# Altium schematic symbol library MyADLib.SchLib: 53 symbols
Pins are listed as number, name and electrical type; pins without a type are passive.

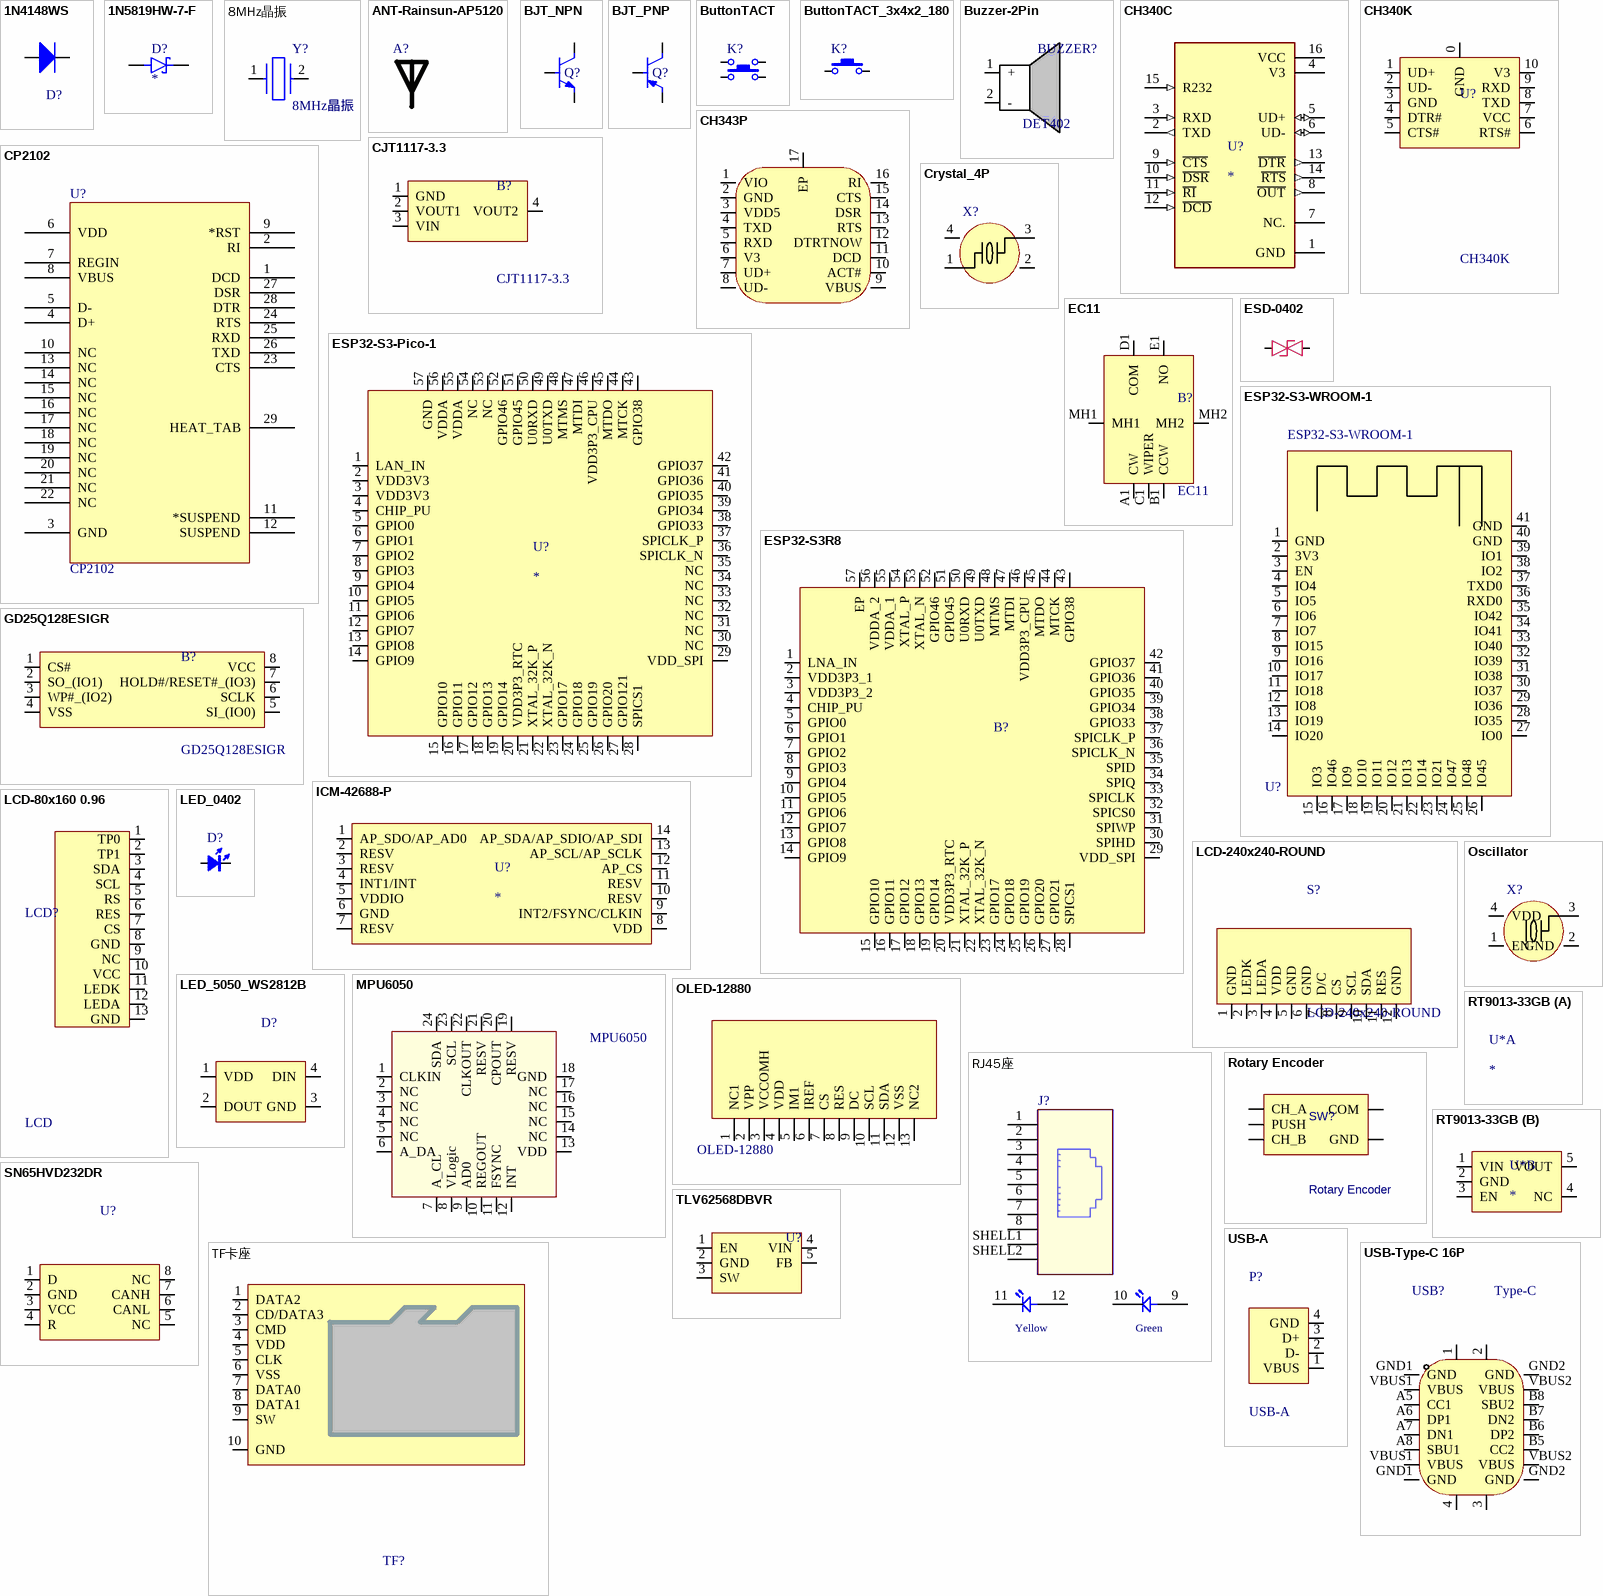
[diagram p0: symbols 1N4148WS to USB-Type-C 16P]

## 1N4148WS
designator D?  (value not drawn)
Diode
footprint SOD-323
pins: A, C K

## 1N5819HW-7-F
designator D?
Diode Schottky 40 V 1A Surface Mount SOD-123; MF: Diodes Inc.; MP: 1N5819HW-7-F; Value: *; SnapEDA_Link: https://www.snapeda.com/parts/1N5819HW-7-F/Diodes+Inc./view-part/?ref=snap; Purchase-URL: https://pricing.snapeda.com/search/part/1N5819HW-7-F/?ref=eda; Availability: In Stock; Price: None; Package: SOD-123 Fairchild Semiconductor; Check_prices: https://www.snapeda.com/parts/1N5819HW-7-F/Diodes+Inc./view-part/?ref=eda
footprint SOD-123
pins: A, C K

## 8MHz晶振
designator Y?
Crystal or Oscillator; Manufacturer_Name: Vishay; Manufacturer_Part_Number: XT9M20ANA8M; Datasheet Link: https://componentsearchengine.com/Datasheets/2/XT9M20ANA8M.pdf; Height: 4.5mm; Mouser Part Number: 73-XT49M800-20; Mouser Price/Stock: https://www.mouser.co.uk/ProductDetail/Vishay-Dale/XT9M20ANA8M?qs=n8eVfDjedmFcUGyWy2y9%2FQ%3D%3D; Arrow Part Number: XT9M20ANA8M; Arrow Price/Stock: null?region=nac
footprint HC-49_SMD
pins: 1 CRYSTAL_1, 2 CRYSTAL_2

## ANT-Rainsun-AP5120
designator A?, comment RAINSUN  (value not drawn)
footprint ANT-Rainsun-AN5120 (选择焊盘)
pins: 1

## BJT_NPN
designator Q?, comment Value  (value not drawn)
Triode_NPN_SMD
footprint SOT23_3 (SOT23, 3-Leads, Body 3.1x3.0mm (max), Pitch 0.95mm, IPC Medium Density)
pins: 1, 2, 3

## BJT_PNP
designator Q?, comment Value  (value not drawn)
Triode_PNP_SMD
footprint SOT23_3 (SOT23, 3-Leads, Body 3.1x3.0mm (max), Pitch 0.95mm, IPC Medium Density)
pins: 1, 2, 3

## ButtonTACT
designator K?, comment TACT 4P  (value not drawn)
Button; value: 3.4x3.5; type: TACT 4P
footprint ButtonTACT_3.5*3.55_90
pins: 1, 2, 3, 4

## ButtonTACT_3x4x2_180
designator K?, comment TACT 2P  (value not drawn)
Button; value: 3x4; type: TACT 2P
footprint ButtonTACT_3x4x2_180
pins: 1, 2

## Buzzer-2Pin
designator BUZZER?, comment DET402
footprint DET402
footprint BUZ-TH_BD9.0-P4.00-D0.6-FD
pins: 1 +, 2 -

## CH340C
designator U?
USB to serial chip CH340; MP: CH340C; MF: WCH; Price: None; Availability: Not in stock; Package: None; SnapEDA_Link: https://www.snapeda.com/parts/CH340C/WCH/view-part/?ref=snap; Check_prices: https://www.snapeda.com/parts/CH340C/WCH/view-part/?ref=eda; Value: *
footprint SOP-16
pins: 1 GND (power), 2 TXD (out), 3 RXD (in), 4 V3 (power), 5 UD+ (io), 6 UD- (io), 7 NC., 8 ~{OUT} (out), 9 ~{CTS} (in), 10 ~{DSR} (in), 11 ~{RI} (in), 12 ~{DCD} (in), 13 ~{DTR} (out), 14 ~{RTS} (out), 15 R232 (in), 16 VCC (power)

## CH340K
designator U?
USB to TTL Serial / UART for dual power
footprint ESSOP10
pins: 0 GND, 1 UD+, 2 UD-, 3 GND, 4 DTR#, 5 CTS#, 6 RTS#, 7 VCC, 8 TXD, 9 RXD, 10 V3

## CH343P
designator ?  (value not drawn)
Designer: U?; Symbol: CH343P; Device: CH343P
footprint TQFN-16_L3.0-W3.0-P0.50-BL-EP1.7
pins: 1 VIO, 2 GND, 3 VDD5, 4 TXD, 5 RXD, 6 V3, 7 UD+, 8 UD-, 9 VBUS, 10 ACT#, 11 DCD, 12 DTRTNOW, 13 RTS, 14 DSR, 15 CTS, 16 RI, 17 EP

## CJT1117-3.3
designator B?
LDO; Manufacturer_Name: Advanced Monolithic Systems; Manufacturer_Part_Number: AMS1117-3.3; Geometry.Height: 1.8mm; Mouser Part Number: *; Mouser Price/Stock: *; Arrow Part Number: *; Arrow Price/Stock: *; Datasheet Link: http://www.advanced-monolithic.com/pdf/ds1117.pdf
footprint SOT-223
pins: 1 GND, 2 VOUT1, 3 VIN, 4 VOUT2

## CP2102
designator U?
USB转TTL; PART DESC: SINGLE-CHIP USB TO UART BRIDGE, QFN28, RoHS.; MFG #1: SILICON LABS; PART NUMBER: CP2102; Value: Value; RefDes: RefDes; Type: DEV
footprint QFN-28
pins: 1 DCD, 2 RI, 3 GND, 4 D+, 5 D-, 6 VDD, 7 REGIN, 8 VBUS, 9 *RST, 10 NC, 11 *SUSPEND, 12 SUSPEND, 13 NC, 14 NC, 15 NC, 16 NC, 17 NC, 18 NC, 19 NC, 20 NC, 21 NC, 22 NC, 23 CTS, 24 RTS, 25 RXD, 26 TXD, 27 DSR, 28 DTR, 29 HEAT_TAB

## Crystal_4P
designator X?, comment XYDBPCNANF-12MHZ  (value not drawn)
四脚无源晶振; Manufacturer: TAITIEN(泰艺电子); Add into BOM: yes; Name: -; Symbol: XYDBPCNANF-12MHZ; Device: XYDBPCNANF-12MHZ; Convert to PCB: yes; LCSC Part Name: 12MHz 12pF ±10ppm -20~+70℃; Supplier Part: C521567; Manufacturer Part: XYDBPCNANF-12MHZ; Supplier Footprint: SMD2520-4P; JLCPCB Part Class: 扩展库; Datasheet: https://atta.szlcsc.com/upload/public/pdf/source/20200427/C521567_8D8DDB0F2E066B5BAD7A5878EBE465E2.pdf; Supplier: LCSC; Crystal Type: -; Value: -; Frequency Tolerance: -; Frequency Stability: -; Load Capacitance: -; Operating Temperature: -
footprint CARSTAL_4P_2520 (CARSTAL_2520)
pins: 1, 2 GND, 3, 4 GND

## EC11
designator B?
Electromechanical Switch Self-Return Switch 0.01A 5VDC - Trays 11mm Size Metal Shaft Type EC11 Series; Manufacturer_Name: ALPS Electric; Manufacturer_Part_Number: EC111012010H; Geometry.Height: 25mm; Mouser Part Number: 688-EC111012010H; Mouser Price/Stock: https://www.mouser.co.uk/ProductDetail/Alps-Alpine/EC111012010H?qs=YMSFtX0bdJDrbcKzFtERqA%3D%3D; Arrow Part Number: *; Arrow Price/Stock: *; Datasheet Link: https://tech.alpsalpine.com/prod/e/html/encoder/incremental/ec11/ec111012010h.html
footprint EC11
pins: A1 CW, B1 CCW, C1 WIPER, D1 COM, E1 NO, MH1, MH2

## ESD-0402
designator ESD-?  (value not drawn)
ESD
footprint ESD-0402
pins: 1, 2

## ESP32-S3-Pico-1
designator U?
ESP32S3-Pico-1
footprint LGA-56
pins: 1 LAN_IN, 2 VDD3V3, 3 VDD3V3, 4 CHIP_PU, 5 GPIO0, 6 GPIO1, 7 GPIO2, 8 GPIO3, 9 GPIO4, 10 GPIO5, 11 GPIO6, 12 GPIO7, 13 GPIO8, 14 GPIO9, 15 GPIO10, 16 GPIO11, 17 GPIO12, 18 GPIO13, 19 GPIO14, 20 VDD3P3_RTC, 21 XTAL_32K_P, 22 XTAL_32K_N, 23 GPIO17, 24 GPIO18, 25 GPIO19, 26 GPIO20, 27 GPIO121, 28 SPICS1, 29 VDD_SPI, 30 NC, 31 NC, 32 NC, 33 NC, 34 NC, 35 NC, 36 SPICLK_N, 37 SPICLK_P, 38 GPIO33, 39 GPIO34, 40 GPIO35, 41 GPIO36, 42 GPIO37, 43 GPIO38, 44 MTCK, 45 MTDO, 46 VDD3P3_CPU, 47 MTDI, 48 MTMS, 49 U0TXD, 50 U0RXD, 51 GPIO45, 52 GPIO46, 53 NC, 54 NC, 55 VDDA, 56 VDDA, 57 GND

## ESP32-S3-WROOM-1
designator U?  (value not drawn)
footprint ESP32S3WROOM1N16R8
pins: 1 GND, 2 3V3, 3 EN, 4 IO4, 5 IO5, 6 IO6, 7 IO7, 8 IO15, 9 IO16, 10 IO17, 11 IO18, 12 IO8, 13 IO19, 14 IO20, 15 IO3, 16 IO46, 17 IO9, 18 IO10, 19 IO11, 20 IO12, 21 IO13, 22 IO14, 23 IO21, 24 IO47, 25 IO48, 26 IO45, 27 IO0, 28 IO35, 29 IO36, 30 IO37, 31 IO38, 32 IO39, 33 IO40, 34 IO41, 35 IO42, 36 RXD0, 37 TXD0, 38 IO2, 39 IO1, 40 GND, 41 GND

## ESP32-S3R8
designator B?  (value not drawn)
WiFi Modules - 802.11 SMD IC, Dual-Core MCU, Wi-Fi 2.4G & BLE 5.0 Combo, 8 MB Octal SPI PSRAM, QFN 56-pin, 7*7 mm; Manufacturer_Name: Espressif Systems; Geometry.Height: 0.9mm; Manufacturer_Part_Number: ESP32-S3R8; Mouser Part Number: 356-ESP32-S3R8; Mouser Price/Stock: https://www.mouser.co.uk/ProductDetail/Espressif-Systems/ESP32-S3R8?qs=Rp5uXu7WBW%252Bto4RqH8CMng%3D%3D; Arrow Part Number: *; Arrow Price/Stock: *; Datasheet Link: https://www.espressif.com/sites/default/files/documentation/esp32-s3_datasheet_en.pdf
footprint QFN-56
pins: 1 LNA_IN, 2 VDD3P3_1, 3 VDD3P3_2, 4 CHIP_PU, 5 GPIO0, 6 GPIO1, 7 GPIO2, 8 GPIO3, 9 GPIO4, 10 GPIO5, 11 GPIO6, 12 GPIO7, 13 GPIO8, 14 GPIO9, 15 GPIO10, 16 GPIO11, 17 GPIO12, 18 GPIO13, 19 GPIO14, 20 VDD3P3_RTC, 21 XTAL_32K_P, 22 XTAL_32K_N, 23 GPIO17, 24 GPIO18, 25 GPIO19, 26 GPIO20, 27 GPIO21, 28 SPICS1, 29 VDD_SPI, 30 SPIHD, 31 SPIWP, 32 SPICS0, 33 SPICLK, 34 SPIQ, 35 SPID, 36 SPICLK_N, 37 SPICLK_P, 38 GPIO33, 39 GPIO34, 40 GPIO35, 41 GPIO36, 42 GPIO37, 43 GPIO38, 44 MTCK, 45 MTDO, 46 VDD3P3_CPU, 47 MTDI, 48 MTMS, 49 U0TXD, 50 U0RXD, 51 GPIO45, 52 GPIO46, 53 XTAL_N, 54 XTAL_P, 55 VDDA_1, 56 VDDA_2, 57 EP

## GD25Q128ESIGR
designator B?
NOR Flash; Manufacturer_Name: GigaDevice Semiconductor (HK) Limited; Geometry.Height: 2.16mm; Manufacturer_Part_Number: GD25Q128ESIGR; Mouser Part Number: 363-GD25Q128ESIGR; Mouser Price/Stock: https://www.mouser.co.uk/ProductDetail/GigaDevice/GD25Q128ESIGR?qs=GedFDFLaBXEn3Si%252BVvAJYw%3D%3D; Arrow Part Number: *; Arrow Price/Stock: *; Datasheet Link: https://www.mouser.vn/ProductDetail/GigaDevice/GD25Q128ESIGR?qs=GedFDFLaBXEn3Si%252BVvAJYw%3D%3D
footprint SOP-8
pins: 1 CS#, 2 SO_(IO1), 3 WP#_(IO2), 4 VSS, 5 SI_(IO0), 6 SCLK, 7 HOLD#/RESET#_(IO3), 8 VCC

## ICM-42688-P
designator U?
Accelerometer, Gyroscope, 6 Axis Sensor Output; MP: ICM-42688-P; Package: None; Value: *; Availability: Unavailable; Price: None
footprint LGA-14
pins: 1 AP_SDO/AP_AD0, 2 RESV, 3 RESV, 4 INT1/INT, 5 VDDIO, 6 GND, 7 RESV, 8 VDD, 9 INT2/FSYNC/CLKIN, 10 RESV, 11 RESV, 12 AP_CS, 13 AP_SCL/AP_SCLK, 14 AP_SDA/AP_SDIO/AP_SDI

## LCD-80x160 0.96
designator LCD?, comment LCD
0.96 LCD 80*160; BOM名称: 12864 点阵屏; 版权归属: 正点原子; Parameter: 显示器件; 学习资源: www.openedv.com
footprint LCD-80x160 0.96 13P
pins: 1 TP0, 2 TP1, 3 SDA, 4 SCL, 5 RS, 6 RES, 7 CS, 8 GND, 9 NC, 10 VCC, 11 LEDK, 12 LEDA, 13 GND

## LCD-240x240-ROUND
designator S?
圆形显示屏
footprint LCD-240x240-ROUND
pins: 1 GND, 2 LEDK, 3 LEDA, 4 VDD, 5 GND, 6 GND, 7 D/C, 8 CS, 9 SCL, 10 SDA, 11 RES, 12 GND

## LED_0402
designator D?, comment color?  (value not drawn)
LED; Type: 0402; Value: color?
footprint LED_0402_RED
footprint LED_0402_BLUE
footprint LED_0402_YELLOW
footprint LED_0402_GREEN
footprint LED_0402_WHITE
footprint LED0402_B (蓝色0402LED)
footprint LED0402_G (绿色0402LED)
footprint LED0402_R (红色0402LED)
footprint LED0402_W (白色0402LED                                联系卖家 免费查找封装)
footprint LED0402_Y (黄色0402LED                                联系卖家 免费查找封装)
pins: 1 A, 2 K

## LED_5050_WS2812B
designator D?
LED
footprint LED_5050_WS2812B
pins: 1 VDD, 2 DOUT, 3 GND, 4 DIN

## MPU6050
designator U?
六轴传感器
footprint QFN-24 (QFN, 24-Leads, Body 4.1x4.1mm (max), Pitch 0.50mm, IPC Low Density)
pins: 1 CLKIN, 2 NC, 3 NC, 4 NC, 5 NC, 6 A_DA, 7 A_CL, 8 VLogic, 9 AD0, 10 REGOUT, 11 FSYNC, 12 INT, 13 VDD, 14 NC, 15 NC, 16 NC, 17 NC, 18 GND, 19 RESV, 20 CPOUT, 21 RESV, 22 CLKOUT, 23 SCL, 24 SDA

## OLED-12880
designator 1?
footprint OLED-12880
pins: 1 NC1, 2 VPP, 3 VCCOMH, 4 VDD, 5 IM1, 6 IREF, 7 CS, 8 RES, 9 DC, 10 SCL, 11 SDA, 12 VSS, 13 NC2

## Oscillator
designator X?, comment XYDBPCNANF-12MHZ  (value not drawn)
四脚有源晶振; Manufacturer: TAITIEN(泰艺电子); Add into BOM: yes; Name: -; Symbol: XYDBPCNANF-12MHZ; Device: XYDBPCNANF-12MHZ; Convert to PCB: yes; LCSC Part Name: 12MHz 12pF ±10ppm -20~+70℃; Supplier Part: C521567; Manufacturer Part: XYDBPCNANF-12MHZ; Supplier Footprint: SMD2520-4P; JLCPCB Part Class: 扩展库; Datasheet: https://atta.szlcsc.com/upload/public/pdf/source/20200427/C521567_8D8DDB0F2E066B5BAD7A5878EBE465E2.pdf; Supplier: LCSC; Crystal Type: -; Value: -; Frequency Tolerance: -; Frequency Stability: -; Load Capacitance: -; Operating Temperature: -
footprint CARSTAL_4P_2520 (CARSTAL_2520)
pins: 1 EN, 2 GND, 3, 4 VDD

## RJ45座
designator J?  (value not drawn)
MF: Wurth; MP: 615008137421; Package: None; Price: 2.50 USD; Availability: Good; SnapEDA_Link: https://www.snapeda.com/parts/615008137421/Wurth%20Electronics%20Inc/view-part/?ref=snap; Value: *
footprint RJ45母座
pins: 1 8, 2 7, 3 6, 4 5, 5 4, 6 3, 7 2, 8 1, 9 12, 10 11, 11 10, 12 9, SHELL1 SHIELD, SHELL2 SHIELD
text: Yellow; Green

## Rotary Encoder
designator SW?
BOM_Manufacturer: ALPSALPINE; BOM_Manufacturer Part: EC11E1534443; Contributor: LCSC; BOM_Supplier: LCSC; BOM_Supplier Part: C1322543; BOM_JLCPCB Part Class: Extended Part; spicePre: S; spiceSymbolName: EC11E1534443
footprint SIQ-02FVS3
pins: 1 CH_A, 2 PUSH, 3 COM, 4 CH_B, 5 GND

## RT9013-33GB
designator U*
5V转3.3V LDO
footprint SOT-23-5
part B pins: 1 VIN, 2 GND, 3 EN, 4 NC, 5 VOUT

## SN65HVD232DR
designator U?  (value not drawn)
Manufacturer: Texas Instruments; Protocol: CAN; Number of Drivers/Receivers: 1/1; Duplex: Half; Data Rate: 1Mbps; Voltage - Supply: 3 V ~ 3.6 V; Supplier 1: Digi-Key; Supplier Part Number 1: 296-26344-2-ND; RoHS: RoHS Compliant; Category: Integrated Circuits (ICs); Stock: 5000; Pricing 1: 2500=0.84375 (USD); Packaging: Tape & Reel (TR); Part Status: Active; Type: Transceiver; Operating Temperature: -40°C ~ 85°C; Mounting Type: Surface Mount; Package / Case: 8-SOIC (0.154", 3.90mm Width); Supplier Device Package: 8-SOIC; ComponentLink1URL: http://www.ti.com/lit/ds/symlink/sn65hvd230.pdf; ComponentLink1Description: http://www.ti.com/lit/ds/symlink/sn65hvd230.pdf; Supplier 2: Digi-Key; Supplier Part Number 2: 296-26344-1-ND; Pricing 2: 1=2.05, 10=1.842, 100=1.4809, 500=1.21668, 1000=1.00811 (USD)
footprint SOIC-8
pins: 1 D, 2 GND, 3 VCC, 4 R, 5 NC, 6 CANL, 7 CANH, 8 NC

## TF卡座
designator TF?, comment TF  (value not drawn)
footprint TF-SOCKET
footprint TF-SOCKET - short
footprint TF-Card-Amphenol with TF
pins: 1 DATA2, 2 CD/DATA3, 3 CMD, 4 VDD, 5 CLK, 6 VSS, 7 DATA0, 8 DATA1, 9 SW, 10 GND

## TLV62568DBVR
designator U?  (value not drawn)
2.5V-5.5V input, 1A high efficiency step-down buck converter in SOT23 and SOT563 package; Manufacturer_Name: Texas Instruments; Geometry.Height: 1.45mm; Manufacturer_Part_Number: TLV62568DBVR; Mouser Part Number: 595-TLV62568DBVR; Mouser Price/Stock: https://www.mouser.co.uk/ProductDetail/Texas-Instruments/TLV62568DBVR?qs=0C8XhJW8e4pNapfrvkX1ow%3D%3D; Arrow Part Number: TLV62568DBVR; Arrow Price/Stock: https://www.arrow.com/en/products/tlv62568dbvr/texas-instruments; Datasheet Link: http://www.ti.com/lit/gpn/tlv62568
footprint SOT-23-5
pins: 1 EN, 2 GND, 3 SW, 4 VIN, 5 FB

## USB-A
designator P?
footprint USB-Short
pins: 1 VBUS, 2 D-, 3 D+, 4 GND

## USB-Type-C 16P
designator USB?, comment Type-C
USB-Type-C_16P
footprint USB TYPE-C 16P
pins: 1 2, 2, 3, 4, A5 CC1, A6 DP1, A7 DN1, A8 SBU1, B5 CC2, B6 DP2, B7 DN2, B8 SBU2, GND1 GND, GND1 GND, GND2 GND, GND2 GND, VBUS1 VBUS, VBUS1 VBUS, VBUS2 VBUS, VBUS2 VBUS

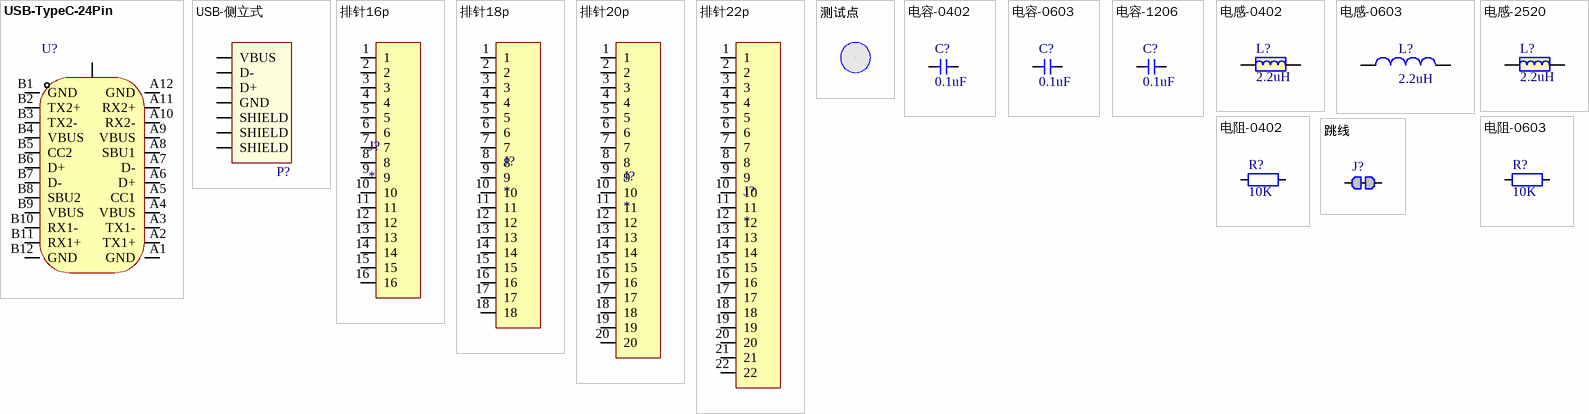
[diagram p1: symbols USB-TypeC-24Pin to 跳线]

## USB-TypeC-24Pin
designator U?
连接器类型:Type-C;标准:-;公母:母座;触点数量:24;端口数量:1;额定电流 - 电源:-;; Manufacturer: MOLEX; Name: 1054500101; Symbol: 105450-0101; Add into BOM: yes; Connector Type: Type-C; Gender: 母座; Number of Contacts: 24; Number of Ports: 1; Device: 1054500101; LCSC Part Name: Type-C 母座; Supplier Part: C134092; Manufacturer Part: 1054500101; Supplier Footprint: SMD; JLCPCB Part Class: 扩展库; Datasheet: https://atta.szlcsc.com/upload/public/pdf/source/20171014/C134092_15079756303111038366.pdf; Supplier: LCSC; Convert to PCB: yes; Standard: -; Current Rating - Power (Max): -
footprint USB-C-SMD_TYPE-C-USB-18
pins: 0 GND, A1 GND, A2 TX1+, A3 TX1-, A4 VBUS, A5 CC1, A6 D+, A7 D-, A8 SBU1, A9 VBUS, A10 RX2-, A11 RX2+, A12 GND, B1 GND, B2 TX2+, B3 TX2-, B4 VBUS, B5 CC2, B6 D+, B7 D-, B8 SBU2, B9 VBUS, B10 RX1-, B11 RX1+, B12 GND

## USB-侧立式
designator P?  (value not drawn)
USB A Skt, Upright/Flag, R/A GF, W/kinked shell stake, tray; MF: Global Connector Technology; MP: USB1025-GF-P-B; Availability: Unavailable; Price: None; SnapEDA_Link: https://www.snapeda.com/parts/USB1025-GF-P-B/Global%20Connector%20Technology/view-part/?ref=snap; Package: None; Value: *
footprint USB-侧立式
pins: 1 VBUS, 2 D-, 3 D+, 4 GND, 5 SHIELD, 6 SHIELD, 7 SHIELD

## 排针16p
designator J?
footprint 排针16p
pins: 1, 2, 3, 4, 5, 6, 7, 8, 9, 10, 11, 12, 13, 14, 15, 16

## 排针18p
designator J?
footprint 排针18p
pins: 1, 2, 3, 4, 5, 6, 7, 8, 9, 10, 11, 12, 13, 14, 15, 16, 17, 18

## 排针20p
designator J?
footprint 排针20p
pins: 1, 2, 3, 4, 5, 6, 7, 8, 9, 10, 11, 12, 13, 14, 15, 16, 17, 18, 19, 20

## 排针22p
designator J?
footprint 排针22P
pins: 1, 2, 3, 4, 5, 6, 7, 8, 9, 10, 11, 12, 13, 14, 15, 16, 17, 18, 19, 20, 21, 22

## 测试点
designator T?  (value not drawn)
footprint TEST_PT
pins: 0

## 电容-0402
designator C?, comment 0.1uF
Capacitor; Value: 0.1u
footprint CAP_0402
footprint C 0402
pins: 1, 2

## 电容-0603
designator C?, comment 0.1uF
Capacitor; Value: 0.1u
footprint CAP_0603
pins: 1, 2

## 电容-1206
designator C?, comment 0.1uF
Capacitor; Value: 0.1u
footprint C 1206
pins: 1, 2

## 电感-0402
designator L?, comment 2.2uH
Inductor
footprint IND_0402
pins: 1, 2

## 电感-0603
designator L?, comment 2.2uH
Inductor; MP: LQP03TN91NJ02D; Package: None; Price: None; Value: *; Availability: Unavailable
footprint IND_0603
pins: 1, 2

## 电感-2520
designator L?, comment 2.2uH
Inductor
footprint IND_2520 (IND_L_2520)
pins: 1, 2

## 电阻-0402
designator R?, comment 10K
Resistor; Value: 22R
footprint RES_0402
footprint R 0402
pins: 1, 2

## 电阻-0603
designator R?, comment 10K
Resistor; Value: 22R
footprint RES_0603
pins: 1, 2

## 跳线
designator J?  (value not drawn)
Resistor; Published: 8-Jun-2000; LatestRevisionDate: 17-Jul-2002; LatestRevisionNote: Re-released for DXP Platform.; PackageReference: AXIAL-0.4; Publisher: Altium Limited; PackageDescription: Axial Device, Thru-Hole; 2 Leads; 0.4 in Pin Spacing
footprint 0R_0402 (选择焊盘)
pins: 1, 2